# EAGLE library part 418127270909 (library Eagle_Wuerth_Elektronik_Switch)
WS-IC 2.54 mm small compact THT Dip Switch with raised actuator, 9 Pole
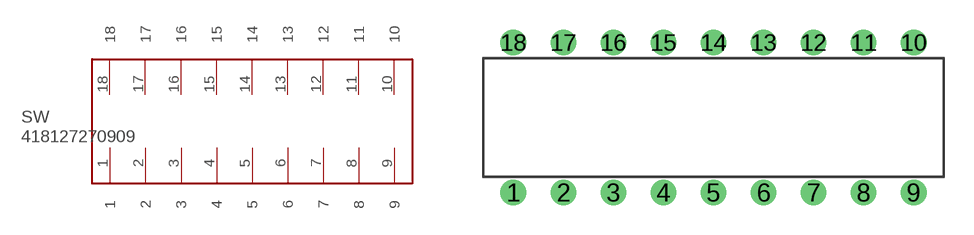
[diagram p114: symbol with the pads of 418127270909; footprint 418127270909]

Designator prefix SW

## 418127270909  [418127270909]
1  1
2  2
3  3
4  4
5  5
6  6
7  7
8  8
9  9
10  10
11  11
12  12
13  13
14  14
15  15
16  16
17  17
18  18

## Footprint 418127270909 (pad centres in mm)
WS-IC 2.54 mm small compact THT Dip Switch with raised actuator, 9 Pole
drill 0.8: 1 0,-3.81; 2 2.54,-3.81; 3 5.08,-3.81; 4 7.62,-3.81; 5 10.16,-3.81; 6 12.7,-3.81; 7 15.24,-3.81; 8 17.78,-3.81; 9 20.32,-3.81; 10 20.32,3.81; 11 17.78,3.81; 12 15.24,3.81; 13 12.7,3.81; 14 10.16,3.81; 15 7.62,3.81; 16 5.08,3.81; 17 2.54,3.81; 18 0,3.81